# EAGLE library part WE-DS_210611023 (library wurth_elektronik_passive_rev16d)
WE-DS D-SUB-Filter, Solder Pin Straight Characteristics Standard type filtered with 1000 pF High attenuation: max. ≥ 40 dB @ 180 MHz Choice of UNC 4/40 or through hole Rated voltage: 100 VDC Rated current @ 20 ºC: 5 A Withstand voltage: 250 VRMS Insulation resistance: min. 1000 MΩ Operating temperature: –55 ºC to +125 ºC Applications Filtering of interfaces External connection to -printer -sensor -display <http://katalog.we-online.de/media/images/v2/Family_D-SUB-Filter_mit_geradem_Ltstift.jpg> Details see: http://katalog.we-online.de/en/pbs/D-SUB-FILTER-STRAIGHT/210111023 2016 (C) Wurth Elektronik
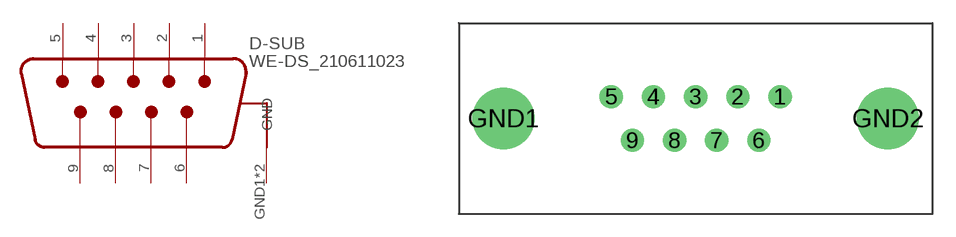
[diagram p226: symbol with the pads of WE-DS_2106110X3; footprint WE-DS_2106110X3]

Designator prefix D-SUB

## WE-DS_210611023  [WE-DS_2106110X3]
1  5
2  4
3  3
4  2
5  1
6  9
7  8
8  7
9  6
GND1  GND
GND2  GND

## Footprint WE-DS_2106110X3 (pad centres in mm)
drill 1: 1 5.49,1.42; 2 2.74,1.42; 3 0,1.42; 4 -2.74,1.42; 5 -5.49,1.42; 6 4.11,-1.42; 7 1.37,-1.42; 8 -1.37,-1.42; 9 -4.11,-1.42
drill 3: GND1 -12.5,0; GND2 12.5,0